# Altium schematic symbol library WE-OLEE.SchLib: 9 symbols
Pins are listed as number, name and electrical type; pins without a type are passive.

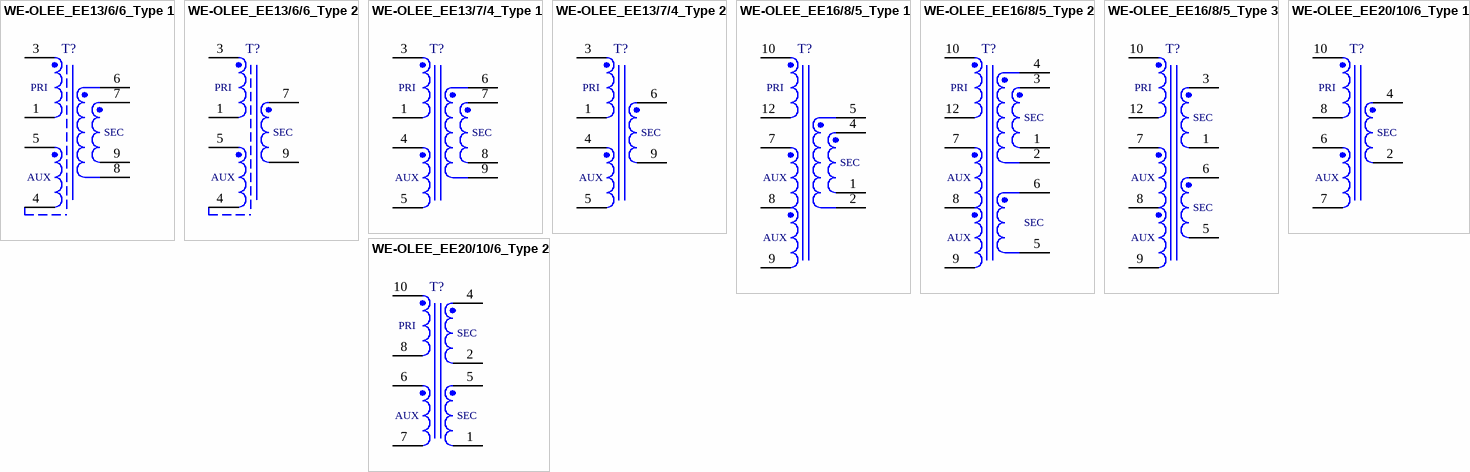
[diagram p0: symbols WE-OLEE_EE13/6/6_Type 1 to WE-OLEE_EE20/10/6_Type 2]

## WE-OLEE_EE13/6/6_Type 1
designator T?
pins: 1, 3, 4, 5, 6, 7, 8, 9
text: PRI; SEC; AUX

## WE-OLEE_EE13/6/6_Type 2
designator T?
pins: 1, 3, 4, 5, 7, 9
text: PRI; SEC; AUX

## WE-OLEE_EE13/7/4_Type 1
designator T?
pins: 1, 3, 4, 5, 6, 7, 8, 9
text: PRI; SEC; AUX

## WE-OLEE_EE13/7/4_Type 2
designator T?
pins: 1, 3, 4, 5, 6, 9
text: PRI; SEC; AUX

## WE-OLEE_EE16/8/5_Type 1
designator T?
pins: 1, 2, 4, 5, 7, 8, 9, 10, 12
text: PRI; SEC; AUX

## WE-OLEE_EE16/8/5_Type 2
designator T?
pins: 1, 2, 3, 4, 5, 6, 7, 8, 9, 10, 12
text: PRI; SEC; AUX

## WE-OLEE_EE16/8/5_Type 3
designator T?
pins: 1, 3, 5, 6, 7, 8, 9, 10, 12
text: PRI; SEC; AUX

## WE-OLEE_EE20/10/6_Type 1
designator T?
pins: 2, 4, 6, 7, 8, 10
text: PRI; SEC; AUX

## WE-OLEE_EE20/10/6_Type 2
designator T?
pins: 1, 2, 4, 5, 6, 7, 8, 10
text: PRI; SEC; AUX